# Altium schematic symbol library TESTPAD.Schlib: 1 symbol
Pins are listed as number, name and electrical type; pins without a type are passive.

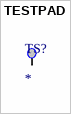
[diagram p0: symbol TESTPAD]

## TESTPAD
designator TS?  (no BOM)
pins: 1 TP "Testpad"